# EAGLE library part FT232B (library ftdichip)
FTDI - FT232BM USB-UART Wrapper The FT232BM is the 2nd generation of FTDI's popular USB UART device and the FT232BL is a lead free version of it. This device not only adds extra functionality to its predecessor (FT8U232AM) and reduces external component count, but also maintains a high degree of pin compatibility with the original making it easy to upgrade or cost reduce existing designs as well as increasing the potential for using this device in new application areas. The FT232BQ provides the same functionality as the FT232BM and FT232BL in a QFN-32 lead free package. To find out more about the FT232BM, FT232BL and FT232BQ, goto http://ftdichip.com/Products/FT232BM.htm.
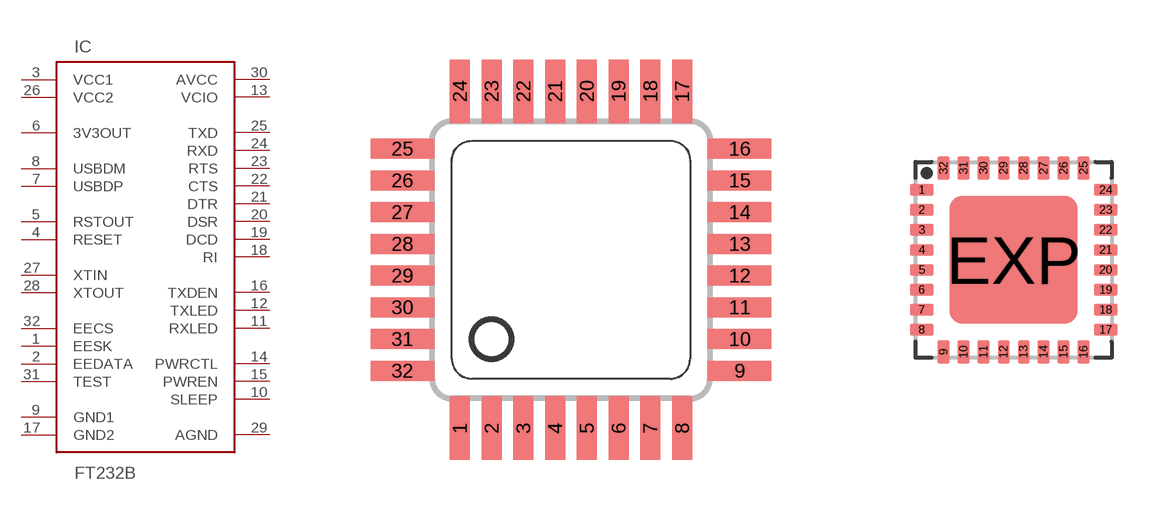
[diagram p0: symbol with the pads of QFP-32; footprints QFP-32, QFN-32]

Designator prefix IC

## FT232BM  [QFP-32]
1  EESK
2  EEDATA
3  VCC1  pwr
4  RESET  in
5  RSTOUT  out
6  3V3OUT  out
7  USBDP
8  USBDM
9  GND1  sup
10  SLEEP  out
11  RXLED  oc
12  TXLED  oc
13  VCIO  in
14  PWRCTL  in
15  PWREN  out
16  TXDEN  out
17  GND2  sup
18  RI  in
19  DCD  in
20  DSR  in
21  DTR  out
22  CTS  in
23  RTS  out
24  RXD  in
25  TXD  out
26  VCC2  pwr
27  XTIN  in
28  XTOUT  out
29  AGND  in
30  AVCC  in
31  TEST  in
32  EECS

## FT232BQ  [QFN-32]
Pads as for QFP-32

## Footprint QFP-32 (pad centres in mm)
Package QFP-32
smd 0.508 x 1.6: 1 -2.8,-4.25; 2 -2,-4.25; 3 -1.2,-4.25; 4 -0.4,-4.25; 5 0.4,-4.25; 6 1.2,-4.25; 7 2,-4.25; 8 2.8,-4.25; 17 2.8,4.25; 18 2,4.25; 19 1.2,4.25; 20 0.4,4.25; 21 -0.4,4.25; 22 -1.2,4.25; 23 -2,4.25; 24 -2.8,4.25
smd 1.6 x 0.508: 9 4.25,-2.8; 10 4.25,-2; 11 4.25,-1.2; 12 4.25,-0.4; 13 4.25,0.4; 14 4.25,1.2; 15 4.25,2; 16 4.25,2.8; 25 -4.25,2.8; 26 -4.25,2; 27 -4.25,1.2; 28 -4.25,0.4; 29 -4.25,-0.4; 30 -4.25,-1.2; 31 -4.25,-2; 32 -4.25,-2.8

## Footprint QFN-32 (pad centres in mm)
Package QFN-32
smd 0.6 x 0.3: 1 -2.3,1.75; 2 -2.3,1.25; 3 -2.3,0.75; 4 -2.3,0.25; 5 -2.3,-0.25; 6 -2.3,-0.75; 7 -2.3,-1.25; 8 -2.3,-1.75; 17 2.3,-1.75; 18 2.3,-1.25; 19 2.3,-0.75; 20 2.3,-0.25; 21 2.3,0.25; 22 2.3,0.75; 23 2.3,1.25; 24 2.3,1.75
smd 0.3 x 0.6: 9 -1.75,-2.3; 10 -1.25,-2.3; 11 -0.75,-2.3; 12 -0.25,-2.3; 13 0.25,-2.3; 14 0.75,-2.3; 15 1.25,-2.3; 16 1.75,-2.3; 25 1.75,2.3; 26 1.25,2.3; 27 0.75,2.3; 28 0.25,2.3; 29 -0.25,2.3; 30 -0.75,2.3; 31 -1.25,2.3; 32 -1.75,2.3
smd 3.2 x 3.2: EXP 0,0